# Altium integrated library SI8641BB-B-IS1.IntLib: 1 symbol
Pins are listed as number, name and electrical type; pins without a type are passive.

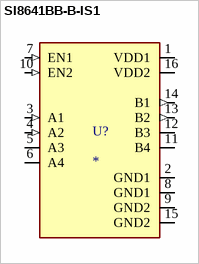
[diagram p0: symbol SI8641BB-B-IS1]

## SI8641BB-B-IS1
designator U?
General Purpose Digital Isolator 2500Vrms 4 Channel 150Mbps 35kV/Âµs CMTI 16-SOIC (0.154, 3.90mm Width); MF: Silicon Labs; MP: SI8641BB-B-IS1; SnapEDA_Link: https://www.snapeda.com/parts/SI8641BB-B-IS1/Silicon+Labs/view-part/?ref=snap; Package: SOIC-16 Silicon Labs; Value: *; Check_prices: https://www.snapeda.com/parts/SI8641BB-B-IS1/Silicon+Labs/view-part/?ref=eda
footprint SOIC127P600X265-16N
pins: 1 VDD1 (power), 2 GND1 (power), 3 A1 (in), 4 A2 (in), 5 A3 (io), 6 A4 (io), 7 EN1 (in), 8 GND1 (power), 9 GND2 (power), 10 EN2 (in), 11 B4 (io), 12 B3 (io), 13 B2 (out), 14 B1 (out), 15 GND2 (power), 16 VDD2 (power)